# Altium footprint library SWDIP.PcbLib: 10 footprints
Each footprint in its own frame and in the unit in brackets; x right, y up, seen from the top. Pads: shape width x height; smd on the part's side, far side on the other; paste and mask are expansions set on the pad; w line width, h text height; cw(c..) or ccw(c..) is an arc to the next point about the centre after c.
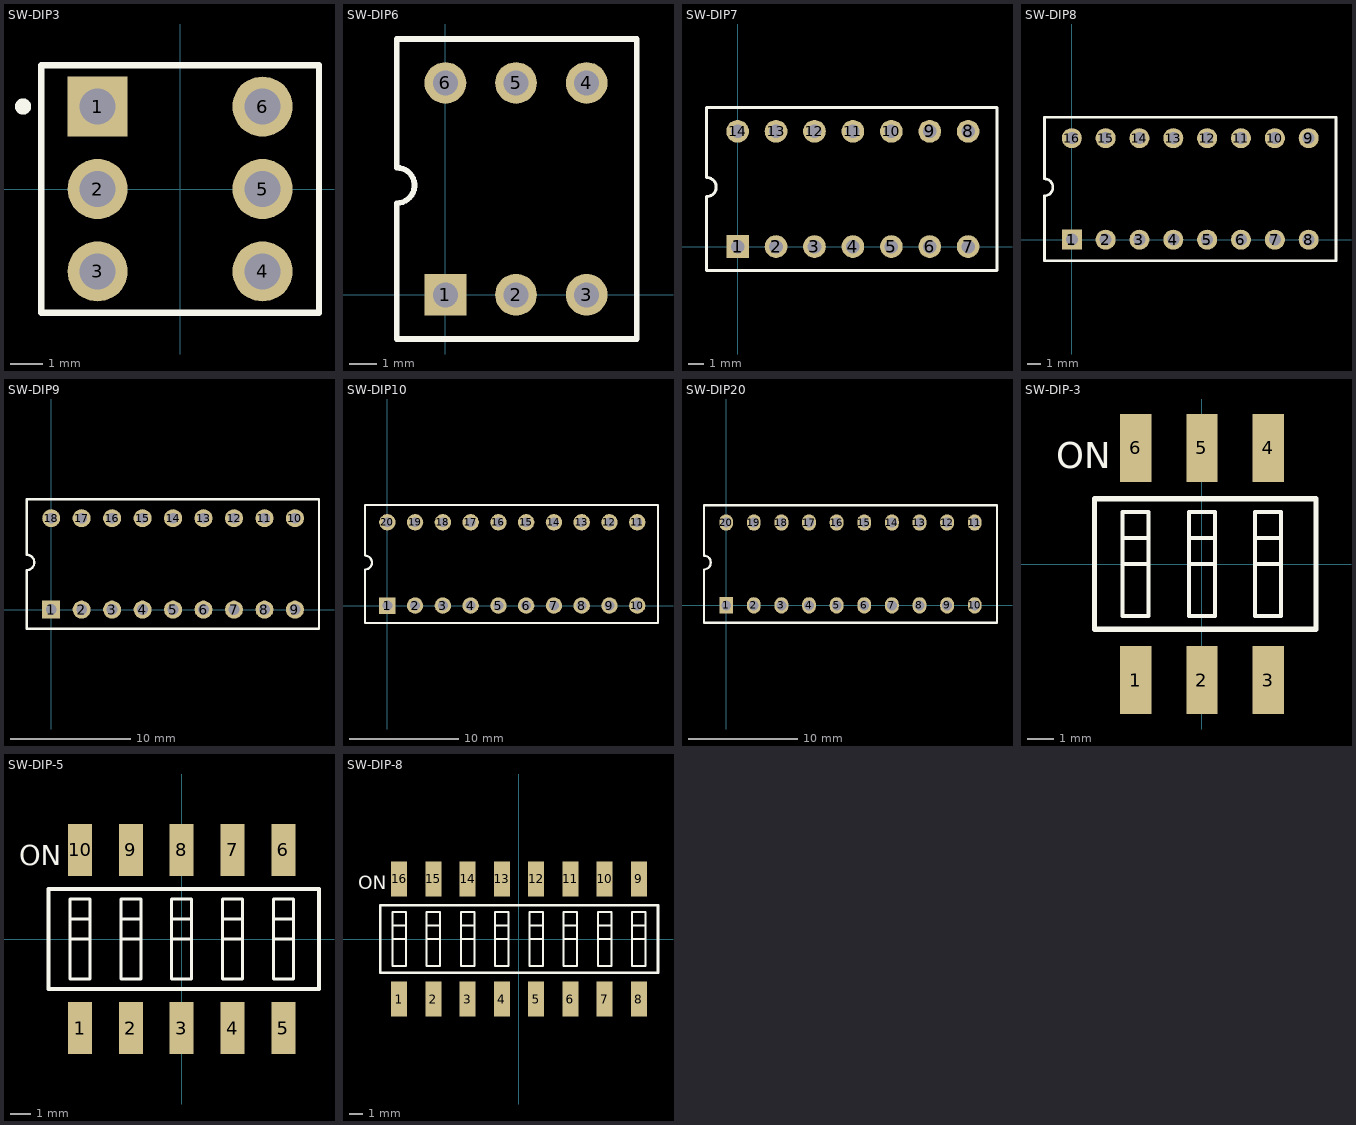
[diagram p0: the footprints below, top view; thin cyan lines are the x and y axes]

## SW-DIP3 [mm] "Switch; 6 Leads"
pads (6):
  rect 1.85x1.85 hole 1.1: 1(-2.54,2.54)
  round 1.85 hole 1.1: 2(-2.54,0) 3(-2.54,-2.54) 4(2.54,-2.54) 5(2.54,0) 6(2.54,2.54)
Top Overlay:
  circle w0.25: c-4.836,2.541 r0.125
  lines w0.2: -4.28,-3.81 -4.28,3.81 4.28,3.81 4.28,-3.81 -4.28,-3.81
3D body: height 3.55, standoff -0.65, extent -3.81,-3.683 3.81,3.937

## SW-DIP6 [mm] "DIP; 16 Leads; Row Spacing 7.62 mm; Pitch 2.54 mm"
pads (6):
  rect 1.5x1.5 hole 0.9: 1(0,0)
  round 1.5 hole 0.9: 2(2.54,0) 3(5.08,0) 4(5.08,7.62) 5(2.54,7.62) 6(0,7.62)
Top Overlay:
  lines w0.2: -1.745,4.57 cw(c-1.745,3.935) -1.745,3.3 -1.745,-1.59 6.883,-1.59 6.883,9.2 -1.745,9.2 -1.745,4.6
3D body: height 7, standoff -3.7, extent -1.753,-1.165 6.867,8.735

## SW-DIP7 [mm] "DIP; 16 Leads; Row Spacing 7.62 mm; Pitch 2.54 mm"
pads (14):
  rect 1.5x1.5 hole 0.9: 1(0,0)
  round 1.5 hole 0.9: 2(2.54,0) 3(5.08,0) 4(7.62,0) 5(10.16,0) 6(12.7,0) 7(15.24,0) 8(15.24,7.62) 9(12.7,7.62) 10(10.16,7.62) 11(7.62,7.62) 12(5.08,7.62) 13(2.54,7.62) 14(0,7.62)
Top Overlay:
  lines w0.2: -2.05,4.57 cw(c-2.05,3.935) -2.05,3.3 -2.05,-1.59 17.145,-1.59 17.145,9.2 -2.05,9.2 -2.05,4.6
3D body: height 6.9, standoff -3.2, extent -2.05,-1.245 17.09,8.915

## SW-DIP8 [mm] "DIP; 16 Leads; Row Spacing 7.62 mm; Pitch 2.54 mm"
pads (16):
  rect 1.5x1.5 hole 0.9: 1(0,0)
  round 1.5 hole 0.9: 2(2.54,0) 3(5.08,0) 4(7.62,0) 5(10.16,0) 6(12.7,0) 7(15.24,0) 8(17.78,0) 9(17.78,7.62) 10(15.24,7.62) 11(12.7,7.62) 12(10.16,7.62) 13(7.62,7.62) 14(5.08,7.62) 15(2.54,7.62) 16(0,7.62)
Top Overlay:
  lines w0.2: -2.05,4.57 cw(c-2.05,3.935) -2.05,3.3 -2.05,-1.59 19.83,-1.59 19.83,9.2 -2.05,9.2 -2.05,4.6
3D body: height 8.25, standoff -3.5, extent -2.286,-1.08 20.214,8.7

## SW-DIP9 [mm] "DIP; 16 Leads; Row Spacing 7.62 mm; Pitch 2.54 mm"
pads (18):
  rect 1.5x1.5 hole 0.9: 1(0,0)
  round 1.5 hole 0.9: 2(2.54,0) 3(5.08,0) 4(7.62,0) 5(10.16,0) 6(12.7,0) 7(15.24,0) 8(17.78,0) 9(20.32,0) 10(20.32,7.62) 11(17.78,7.62) 12(15.24,7.62) 13(12.7,7.62) 14(10.16,7.62) 15(7.62,7.62) 16(5.08,7.62) 17(2.54,7.62) 18(0,7.62)
Top Overlay:
  lines w0.2: -2.05,4.57 cw(c-2.05,3.935) -2.05,3.3 -2.05,-1.59 22.327,-1.59 22.327,9.2 -2.05,9.2 -2.05,4.6
3D body: height 6.9, standoff -3.2, extent -2.046,-1.245 22.174,8.915

## SW-DIP10 [mm] "DIP; 16 Leads; Row Spacing 7.62 mm; Pitch 2.54 mm"
pads (20):
  rect 1.5x1.5 hole 0.9: 1(0,0)
  round 1.5 hole 0.9: 2(2.54,0) 3(5.08,0) 4(7.62,0) 5(10.16,0) 6(12.7,0) 7(15.24,0) 8(17.78,0) 9(20.32,0) 10(22.86,0) 11(22.86,7.62) 12(20.32,7.62) 13(17.78,7.62) 14(15.24,7.62) 15(12.7,7.62) 16(10.16,7.62) 17(7.62,7.62) 18(5.08,7.62) 19(2.54,7.62) 20(0,7.62)
Top Overlay:
  lines w0.2: -2.05,4.57 cw(c-2.05,3.935) -2.05,3.3 -2.05,-1.59 24.765,-1.59 24.765,9.2 -2.05,9.2 -2.05,4.6
3D body: height 6.9, standoff -3.2, extent -2.007,-1.295 24.753,8.865

## SW-DIP20 [mm] "DIP; 16 Leads; Row Spacing 7.62 mm; Pitch 2.54 mm"
pads (20):
  rect 1.27x1.5 hole 0.9: 1(0,0)
  oval 1.27x1.5 hole 0.9: 2(2.54,0) 3(5.08,0) 4(7.62,0) 5(10.16,0) 6(12.7,0) 7(15.24,0) 8(17.78,0) 9(20.32,0) 10(22.86,0) 11(22.86,7.62) 12(20.32,7.62) 13(17.78,7.62) 14(15.24,7.62) 15(12.7,7.62) 16(10.16,7.62) 17(7.62,7.62) 18(5.08,7.62) 19(2.54,7.62) 20(0,7.62)
Top Overlay:
  lines w0.2: -2.05,-1.59 -2.05,3.3 ccw(c-2.05,3.935) -2.05,4.57 ; -2.05,4.6 -2.05,9.2 ; 24.91,-1.59 24.91,9.2
  lines w0.203: -2.05,-1.59 24.892,-1.59 ; -2.05,9.2 24.892,9.2
3D body: height 8.71, standoff -3.99, extent -2.086,-2.639 24.794,8.661

## SW-DIP-3 [mm] "DIP Switch; 16 Leads"
height 5.06
pads (6):
  rect 1.2x2.6 smd: 1(-2.54,-4.45) 2(0,-4.45) 3(2.54,-4.45) 4(2.54,4.45) 5(0,4.45) 6(-2.54,4.45)
Top Overlay:
  lines w0.152: -3.04,0 -2.04,0 ; -3.04,1 -2.04,1 ; -0.5,0 0.5,0 ; -0.5,1 0.5,1 ; 2.04,0 3.04,0 ; 2.04,1 3.04,1 ; -3.04,-2 -3.04,2 -2.04,2 -2.04,-2 -3.04,-2 ; -0.5,-2 -0.5,2 0.5,2 0.5,-2 -0.5,-2 ; 2.04,-2 2.04,2 3.04,2 3.04,-2 2.04,-2
  lines w0.2: -4.115,-2.5 -4.115,2.5 4.369,2.5 4.369,-2.5 -4.115,-2.5
  text "ON" at -5.588,3.678 h1
3D body: height 4.4, standoff 0, extent -4.293,-4.951 4.267,4.849

## SW-DIP-5 [mm] "DIP Switch; 16 Leads"
height 5.06
pads (10):
  rect 1.2x2.6 smd: 1(-5.08,-4.45) 2(-2.54,-4.45) 3(0,-4.45) 4(2.54,-4.45) 5(5.08,-4.45) 6(5.08,4.45) 7(2.54,4.45) 8(0,4.45) 9(-2.54,4.45) 10(-5.08,4.45)
Top Overlay:
  lines w0.152: -5.58,0 -4.58,0 ; -5.58,1 -4.58,1 ; -3.04,0 -2.04,0 ; -3.04,1 -2.04,1 ; -0.5,0 0.5,0 ; -0.5,1 0.5,1 ; 2.04,0 3.04,0 ; 2.04,1 3.04,1 ; 4.58,0 5.58,0 ; 4.58,1 5.58,1 ; -5.58,-2 -5.58,2 -4.58,2 -4.58,-2 -5.58,-2 ; -3.04,-2 -3.04,2 -2.04,2 -2.04,-2 -3.04,-2 ; -0.5,-2 -0.5,2 0.5,2 0.5,-2 -0.5,-2 ; 2.04,-2 2.04,2 3.04,2 3.04,-2 2.04,-2 ; 4.58,-2 4.58,2 5.58,2 5.58,-2 4.58,-2
  lines w0.2: -6.655,-2.5 -6.655,2.5 6.858,2.5 6.858,-2.5 -6.655,-2.5
  text "ON" at -8.128,3.678 h1
3D body: height 4.4, standoff 0, extent -6.795,-5.105 6.845,4.695

## SW-DIP-8 [mm] "DIP Switch; 16 Leads"
height 5.06
pads (16):
  rect 1.2x2.6 smd: 1(-8.89,-4.45) 2(-6.35,-4.45) 3(-3.81,-4.45) 4(-1.27,-4.45) 5(1.27,-4.45) 6(3.81,-4.45) 7(6.35,-4.45) 8(8.89,-4.45) 9(8.89,4.45) 10(6.35,4.45) 11(3.81,4.45) 12(1.27,4.45) 13(-1.27,4.45) 14(-3.81,4.45) 15(-6.35,4.45) 16(-8.89,4.45)
Top Overlay:
  lines w0.152: -9.39,0 -8.39,0 ; -9.39,1 -8.39,1 ; -6.85,0 -5.85,0 ; -6.85,1 -5.85,1 ; -4.31,0 -3.31,0 ; -4.31,1 -3.31,1 ; -1.77,0 -0.77,0 ; -1.77,1 -0.77,1 ; 0.77,0 1.77,0 ; 0.77,1 1.77,1 ; 3.31,0 4.31,0 ; 3.31,1 4.31,1 ; 5.85,0 6.85,0 ; 5.85,1 6.85,1 ; 8.39,0 9.39,0 ; 8.39,1 9.39,1 ; -9.39,-2 -9.39,2 -8.39,2 -8.39,-2 -9.39,-2 ; -6.85,-2 -6.85,2 -5.85,2 -5.85,-2 -6.85,-2 ; -4.31,-2 -4.31,2 -3.31,2 -3.31,-2 -4.31,-2 ; -1.77,-2 -1.77,2 -0.77,2 -0.77,-2 -1.77,-2 ; 0.77,-2 0.77,2 1.77,2 1.77,-2 0.77,-2 ; 3.31,-2 3.31,2 4.31,2 4.31,-2 3.31,-2 ; 5.85,-2 5.85,2 6.85,2 6.85,-2 5.85,-2 ; 8.39,-2 8.39,2 9.39,2 9.39,-2 8.39,-2
  lines w0.2: -10.29,-2.5 -10.29,2.5 10.31,2.5 10.31,-2.5 -10.29,-2.5
  text "ON" at -11.938,3.678 h1
3D body: height 4.3, standoff 0.05, extent -10.182,-4.83 10.182,5.08